# EAGLE library part PC16-SHM2 (library PIHER)
POTENTIOMETER single carbon potentiometer, 16 mm, S3ROH
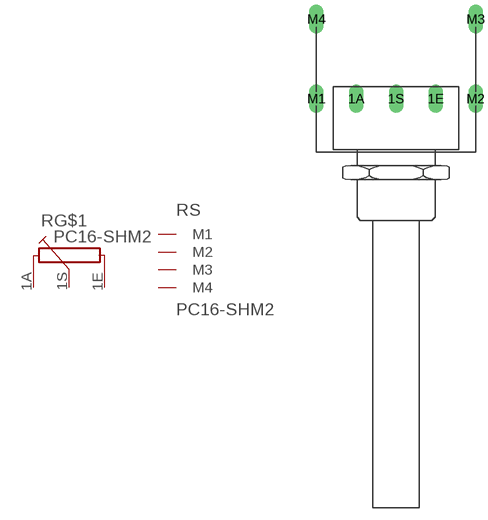
[diagram p3: symbol with the pads of PC16-SHM2; footprint PC16-SHM2]

Designator prefix R; gates G$1=POT S=PC16-M2

## PC16-SHM2  [PC16-SHM2]
1A  G$1:1A  pas
1E  G$1:1E  pas
1S  G$1:1S  pas
M1  S:M1  pas
M2  S:M2  pas
M3  S:M3  pas
M4  S:M4  pas

## Footprint PC16-SHM2 (pad centres in mm)
POTENTIOMETER single carbon potentiometer, 16 mm
drill 1.2 long: 1A -5,6.5; 1E 5,6.5; 1S 0,6.5; M1 -10,6.5; M2 10,6.5; M3 10,16.5; M4 -10,16.5